# Altium integrated library 3361P-1-203GLF.IntLib: 1 symbol
Pins are listed as number, name and electrical type; pins without a type are passive.

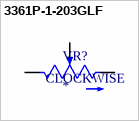
[diagram p0: symbol 3361P-1-203GLF]

## 3361P-1-203GLF
designator VR?
10 kOhms 0.5W, 1/2W Gull Wing Surface Mount Trimmer Potentiometer Cermet 1 Turn Top Adjustment; MP: 3361P-1-203GLF; MF: {'manufacturer': u'Bourns'}; Package: None; Value: *; Availability: Unavailable; Price: None
footprint TRIM_3361P-1-203GLF
pins: 1 CCW, 2 WIPER, 3 CW
text: CLOCKWISE